# Altium schematic symbol library SamacSys.SchLib: 8 symbols
Pins are listed as number, name and electrical type; pins without a type are passive.

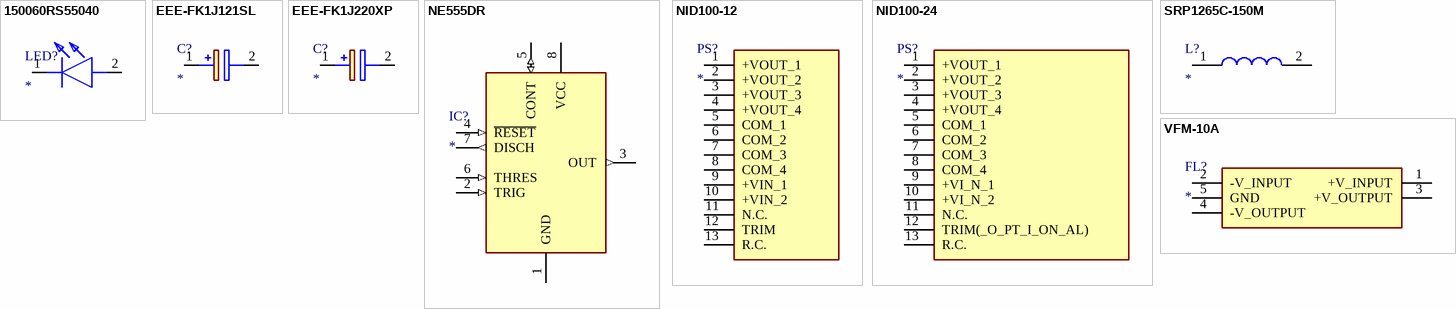
[diagram p0: symbols 150060RS55040 to VFM-10A]

## 150060RS55040
designator LED?
LED; Manufacturer_Name: Wurth Elektronik; Manufacturer_Part_Number: 150060RS55040; Description: Standard LEDs - SMD WL-SMCD SMD MonoChip 0603 Red 632nm; Datasheet Link: http://katalog.we-online.de/led/datasheet/150060RS55040.pdf; Height: 0mm; Mouser Part Number: 710-150060RS55040; Mouser Price/Stock: https://www.mouser.co.uk/ProductDetail/Wurth-Elektronik/150060RS55040?qs=8Aam6%252B7C6HHnMZFlrlTntA%3D%3D
footprint 150060RS55040
pins: 1 K, 2 A

## EEE-FK1J121SL
designator C?
Capacitor Polarised; Manufacturer_Name: Panasonic; Manufacturer_Part_Number: EEE-FK1J121SL; Datasheet Link: http://industrial.panasonic.com/cdbs/www-data/pdf/RDE0000/RDE0000C1263.pdf
footprint EEEFK1V331P
pins: 1 +, 2 -

## EEE-FK1J220XP
designator C?
Capacitor Polarised; Manufacturer_Name: Panasonic; Manufacturer_Part_Number: EEE-FK1J220XP; Datasheet Link: http://industrial.panasonic.com/cdbs/www-data/pdf/RDE0000/ABA0000C1181.pdf; Height: 7.8mm; Mouser Part Number: 667-EEE-FK1J220XP; Mouser Price/Stock: https://www.mouser.co.uk/ProductDetail/Panasonic/EEE-FK1J220XP?qs=qE6bgDGEOCtReXDhLMMdtw%3D%3D; Arrow Part Number: EEE-FK1J220XP; Arrow Price/Stock: https://www.arrow.com/en/products/eeefk1j220xp/panasonic
footprint EEE0JA331XP
pins: 1 +, 2 -

## NE555DR
designator IC?
Integrated Circuit; Manufacturer_Name: Texas Instruments; Manufacturer_Part_Number: NE555DR; Datasheet Link: http://www.ti.com/lit/ds/symlink/ne555.pdf; Height: 1.75mm; Mouser Part Number: 595-NE555DR; Mouser Price/Stock: https://www.mouser.com/Search/Refine.aspx?Keyword=595-NE555DR; RS Part Number: 1218414; RS Price/Stock: http://uk.rs-online.com/web/p/products/1218414
footprint SOIC127P600X175-8N
pins: 1 GND (power), 2 TRIG (in), 3 OUT (out), 4 ~{RESET} (in), 5 CONT (io), 6 THRES (in), 7 DISCH (out), 8 VCC (power)

## NID100-12
designator PS?
Power Supply; Manufacturer_Name: Mean Well; Manufacturer_Part_Number: NID100-12; Datasheet Link: https://www.meanwell-web.com/content/files/pdfs/productPdfs/MW/NID100/NID100-spec.pdf; Height: 27.5mm; Mouser Part Number: 709-NID100-12; Mouser Price/Stock: https://www.mouser.co.uk/ProductDetail/MEAN-WELL/NID100-12?qs=u16ybLDytRakdcW8%2FWhQZg%3D%3D; Arrow Part Number: NID100-12; Arrow Price/Stock: https://www.arrow.com/en/products/nid100-12/mean-well-enterprises?region=nac
footprint NID10012
pins: 1 +VOUT_1, 2 +VOUT_2, 3 +VOUT_3, 4 +VOUT_4, 5 COM_1, 6 COM_2, 7 COM_3, 8 COM_4, 9 +VIN_1, 10 +VIN_2, 11 N.C., 12 TRIM, 13 R.C.

## NID100-24
designator PS?
Power Supply; Manufacturer_Name: Mean Well; Manufacturer_Part_Number: NID100-24; Datasheet Link: https://www.meanwellusa.com/webapp/product/search.aspx?prod=NID100#1; Height: 27.5mm; Mouser Part Number: 709-NID100-24; Mouser Price/Stock: https://www.mouser.co.uk/ProductDetail/MEAN-WELL/NID100-24?qs=u16ybLDytRYj3KEXttNRbg%3D%3D; Arrow Part Number: NID100-24; Arrow Price/Stock: https://www.arrow.com/en/products/nid100-24/mean-well-enterprises?region=nac
footprint NID10024
pins: 1 +VOUT_1, 2 +VOUT_2, 3 +VOUT_3, 4 +VOUT_4, 5 COM_1, 6 COM_2, 7 COM_3, 8 COM_4, 9 +VI_N_1, 10 +VI_N_2, 11 N.C., 12 TRIM(_O_PT_I_ON_AL), 13 R.C.

## SRP1265C-150M
designator L?
Inductor; Manufacturer_Name: Bourns; Manufacturer_Part_Number: SRP1265C-150M; Datasheet Link: https://www.mouser.cl/datasheet/2/54/Bourns_SRP1265C_datasheet-1775834.pdf; Height: 6.5mm; Mouser Part Number: 652-SRP1265C-150M; Mouser Price/Stock: https://www.mouser.co.uk/ProductDetail/Bourns/SRP1265C-150M?qs=OlC7AqGiEDnNYfbirifssw%3D%3D; Arrow Part Number: SRP1265C-150M; Arrow Price/Stock: https://www.arrow.com/en/products/srp1265c-150m/bourns?region=nac
footprint INDPM135126X650N
pins: 1, 2

## VFM-10A
designator FL?
Filter; Manufacturer_Name: CUI Inc.; Manufacturer_Part_Number: VFM-10A; Datasheet Link: https://www.cui.com/product/resource/vfm-xx.pdf; Height: 11.7mm; Mouser Part Number: 490-VFM-10A; Mouser Price/Stock: https://www.mouser.co.uk/ProductDetail/CUI-Inc/VFM-10A?qs=WyjlAZoYn52c0yYVx%252BhHOQ%3D%3D; Arrow Part Number: VFM-10A; Arrow Price/Stock: https://www.arrow.com/en/products/vfm-10a/cui-inc
footprint VFM10A
pins: 1 +V_INPUT, 2 -V_INPUT, 3 +V_OUTPUT, 4 -V_OUTPUT, 5 GND